# Altium footprint library huiba.PcbLib: 3 footprints
Each footprint in its own frame and in the unit in brackets; x right, y up, seen from the top. Pads: shape width x height; smd on the part's side, far side on the other; paste and mask are expansions set on the pad; w line width, h text height; cw(c..) or ccw(c..) is an arc to the next point about the centre after c.
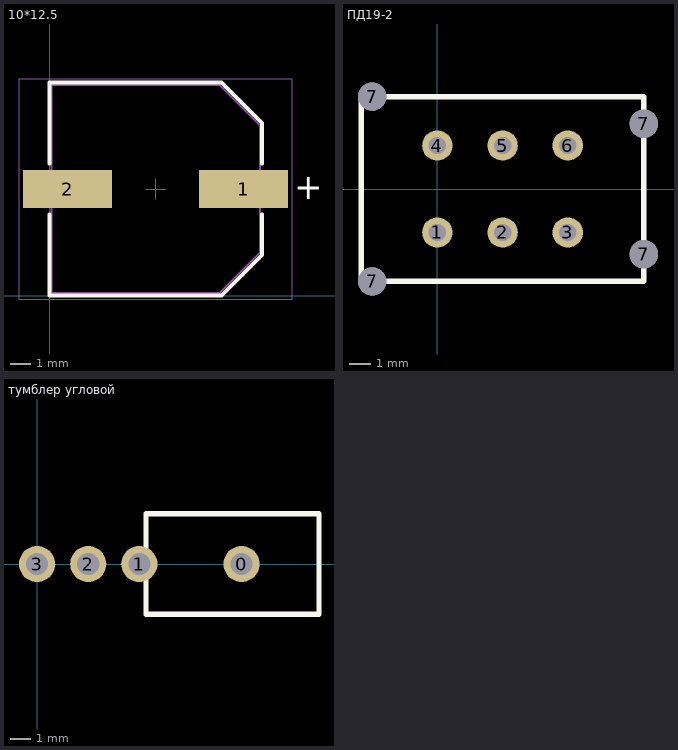
[diagram p0: the footprints below, top view; thin cyan lines are the x and y axes]

## 10*12.5 [mm]
pads (2):
  rect 4.4x1.9 smd: 1(9.585,5.285) 2(0.885,5.285)
Top Overlay:
  lines w0.2: -0.015,4.035 -0.015,0.035 8.485,0.035 10.485,2.035 10.485,4.035 ; -0.015,6.535 -0.015,10.535 8.485,10.535 10.485,8.535 10.485,6.535
  text "+" at 12.085,4.785 h1.22
Top Component Outline:
  lines w0.1: 0.085,0.135 0.085,10.435 8.385,10.435 10.385,8.435 10.385,2.135 8.385,0.135 0.085,0.135
Top Courtyard:
  lines w0.05: -1.515,-0.165 11.985,-0.165 11.985,10.735 -1.515,10.735 -1.515,-0.165
Top Component Center:
  lines w0.05: 4.735,5.285 5.735,5.285 ; 5.235,4.785 5.235,5.785
Top Designator:
  text ".Designator" at -2.263,4.785 h1.5
3D body "10x10.5x4.5.stp": height 12.35, standoff 1.85, extent -0.265,0.135 10.735,10.435

## ПД19-2 [mm]
pads (10):
  round 1.4 hole 0.8: 1(0,-2) 2(3,-2) 3(6,-2) 4(0,2) 5(3,2) 6(6,2)
  round 1.3 hole 1.3: 7(-3,-4.25) 7(-3,4.25) 7(9.5,-3) 7(9.5,3)
Top Overlay:
  lines w0.254: -3.5,-4.25 9.5,-4.25 9.5,4.25 -3.5,4.25 -3.5,-4.25
3D body: height 8.5, standoff 0, extent -3.5,-4.25 9.5,4.25
3D body: height 6.25, standoff 2.25, extent -11.5,-1.75 -3.5,1.75

## тумблер угловой [mm] "SMTS-102-2C4"
pads (4):
  round 1.8 hole 1.1: 0(10.16,0) 1(5.08,0) 2(2.54,0) 3(0,0)
Top Overlay:
  lines w0.254: 5.41,-2.5 14.01,-2.5 14.01,2.5 5.41,2.5 5.41,-2.5
3D body: height 7.73, standoff 3.01, extent 18.567,-1.225 25.065,1.275
3D body: height 6.65, standoff 1.65, extent 14.01,-2.5 19.61,2.5
3D body: height 2, standoff -1, extent 9.91,-0.4 10.41,0.4
3D body: height 4.5, standoff 4, extent 2.3,-0.4 5.425,0.4
3D body: height 7, standoff 6.5, extent -0.25,-0.4 5.425,0.4
3D body: height 6.5, standoff -1, extent -0.25,-0.4 0.25,0.4
3D body: height 4.5, standoff -1, extent 2.29,-0.4 2.79,0.4
3D body: height 2, standoff -1, extent 4.83,-0.4 5.33,0.4
3D body: height 8.3, standoff 0, extent 5.334,-2.54 13.97,2.54